# EAGLE library part CON6 (library 2020-03-18-Lib)
Standard Connector 3 pin
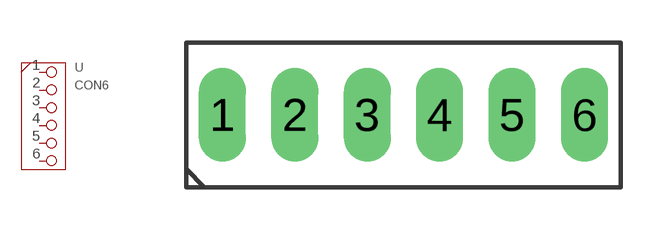
[diagram p5: symbol with the pads of CON6; footprint CON6]

Designator prefix -

## CON6-2.54MM  [CON6]
1  1  pas
2  2  pas
3  3  pas
4  4  pas
5  5  pas
6  6  pas

## Footprint CON6 (pad centres in mm)
Connector 6 Pin Spacing: 2.54mm Side-by-side: Yes
drill 1.1 long: 1 -3.81,0; 2 -1.27,0; 3 1.27,0; 4 3.81,0; 5 6.35,0; 6 8.89,0